# EAGLE library part 78615/9JC (library ruark2)
10mH General Purpose Pulse Transformer 1CT:1CT Surface Mount 56Vus
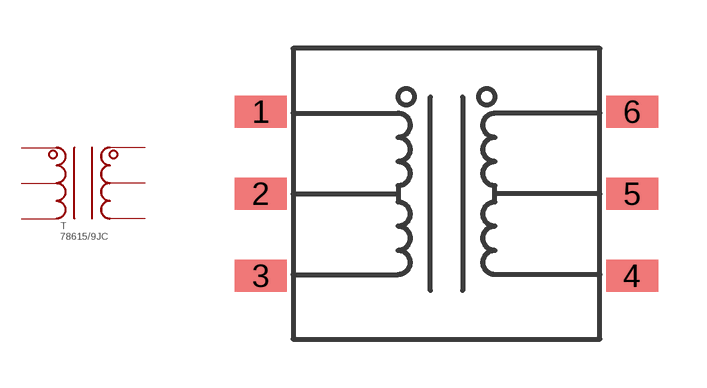
[diagram p183: symbol with the pads of 786; footprint 786]

Designator prefix T

## 78615/9JC (PARTNO: 811-2423-ND)  [786]
1  1
2  2
3  3
4  4
5  5
6  6

## Footprint 786 (pad centres in mm)
smd 1.6 x 1: 1 -5.75,2.54; 2 -5.75,0; 3 -5.75,-2.54; 4 5.75,-2.54; 5 5.75,0; 6 5.75,2.54